# Altium footprint library 3310Y.PcbLib: 1 footprints
Each footprint in its own frame and in the unit in brackets; x right, y up, seen from the top. Pads: shape width x height; smd on the part's side, far side on the other; paste and mask are expansions set on the pad; w line width, h text height; cw(c..) or ccw(c..) is an arc to the next point about the centre after c.
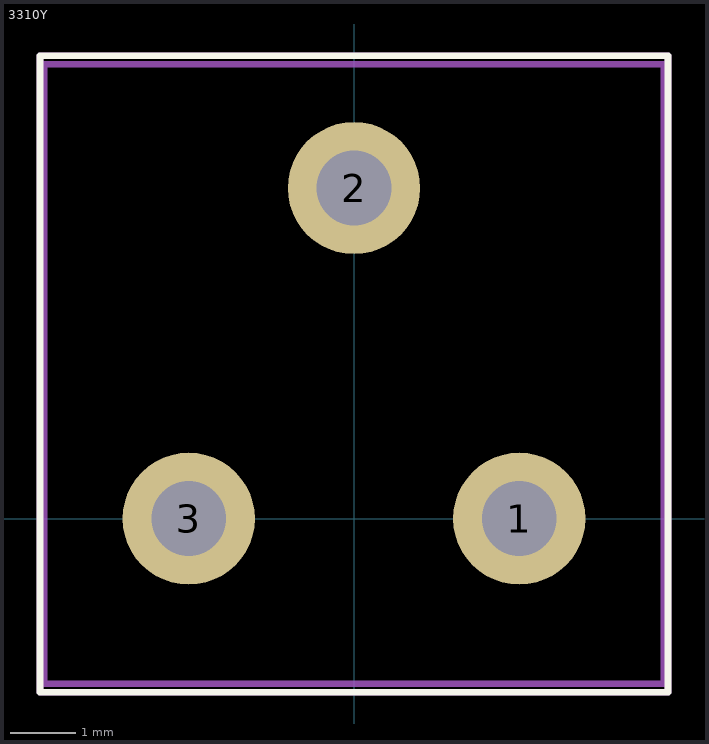
[diagram p0: the footprint, top view; thin cyan lines are the x and y axes]

## 3310Y [mil]
pads (3):
  round 80 hole 45.28: 1(100,0) 2(0,200) 3(-100,0)
Top Overlay:
  lines w4: -190,-105 -190,280 190,280 190,-105 -190,-105
Mechanical 1:
  text ".Designator" at -100,75 h39.37
Mechanical 13:
  lines w4: -187.49,-100 -187.49,275 187.51,275 187.51,-100 -187.49,-100
Mechanical 15:
  lines w4: -190,-105 -190,280 190,280 190,-105 -190,-105
3D body: height 678.5, standoff -234, extent -187.5,-100 187.51,275